# Altium schematic symbol library LED-0603.SchLib: 3 symbols
Pins are listed as number, name and electrical type; pins without a type are passive.

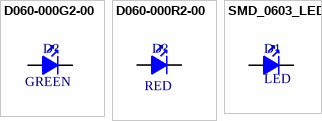
[diagram p0: symbols D060-000G2-00 to SMD_0603_LED]

## D060-000G2-00
designator D?  Color: GREEN  (hidden comment: D060-000G2-00)
LED 0603 GREEN 3.2Vf 20mA; Supplier 1: Digi-Key; Supplier Part Number 1: 732-4971-1-ND
footprint SMD_0603_LED
pins: 1 K, 2 A

## D060-000R2-00
designator D?  Color: RED  (hidden comment: D060-000R2-00)
LED 0603 RED 2Vf 20mA; Supplier 1: Digi-Key; Supplier Part Number 1: 732-4978-1-ND
footprint SMD_0603_LED
pins: 1 K, 2 A

## SMD_0603_LED
designator D1, comment LED
footprint SMD_0603_LED
pins: 1 K, 2 A